# Altium schematic symbol library Schlib1.SchLib: 7 symbols
Pins are listed as number, name and electrical type; pins without a type are passive.

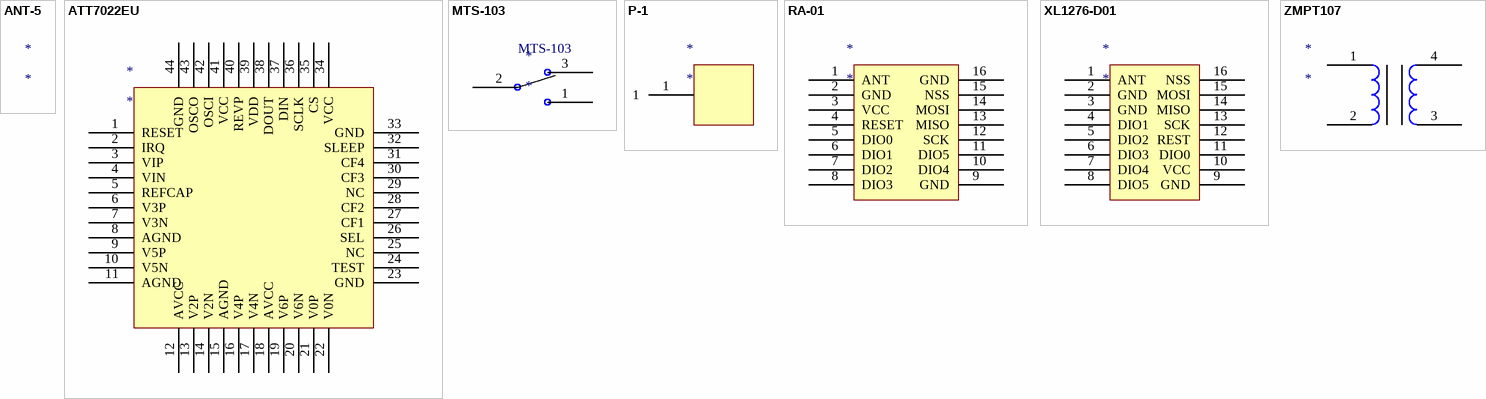
[diagram p0: symbols ANT-5 to ZMPT107]

## ANT-5
designator *

## ATT7022EU
designator *
pins: 1 RESET, 2 IRQ, 3 VIP, 4 VIN, 5 REFCAP, 6 V3P, 7 V3N, 8 AGND, 9 V5P, 10 V5N, 11 AGND, 12 AVCC, 13 V2P, 14 V2N, 15 AGND, 16 V4P, 17 V4N, 18 AVCC, 19 V6P, 20 V6N, 21 V0P, 22 V0N, 23 GND, 24 TEST, 25 NC, 26 SEL, 27 CF1, 28 CF2, 29 NC, 30 CF3, 31 CF4, 32 SLEEP, 33 GND, 34 VCC, 35 CS, 36 SCLK, 37 DIN, 38 DOUT, 39 VDD, 40 REVP, 41 VCC, 42 OSCI, 43 OSCO, 44 GND

## MTS-103
designator *
footprint MTS-103
pins: 1, 2, 3

## P-1
designator *
pins: 1

## RA-01
designator *
pins: 1 ANT, 2 GND, 3 VCC, 4 RESET, 5 DIO0, 6 DIO1, 7 DIO2, 8 DIO3, 9 GND, 10 DIO4, 11 DIO5, 12 SCK, 13 MISO, 14 MOSI, 15 NSS, 16 GND

## XL1276-D01
designator *
footprint XL1278-DO1
pins: 1 ANT, 2 GND, 3 GND, 4 DIO1, 5 DIO2, 6 DIO3, 7 DIO4, 8 DIO5, 9 GND, 10 VCC, 11 DIO0, 12 REST, 13 SCK, 14 MISO, 15 MOSI, 16 NSS

## ZMPT107
designator *
footprint ZTMP107
pins: 1, 2, 3, 4